# EAGLE library part LM2936QHBMA-5.0_NOPB (library LM2936QHBMA-5.0_NOPB)
Ultra-Low Quiescent Current LDO Voltage Regulator Source: Datasheet <http://www.ti.com/lit/gpn/lm2936q-q1>
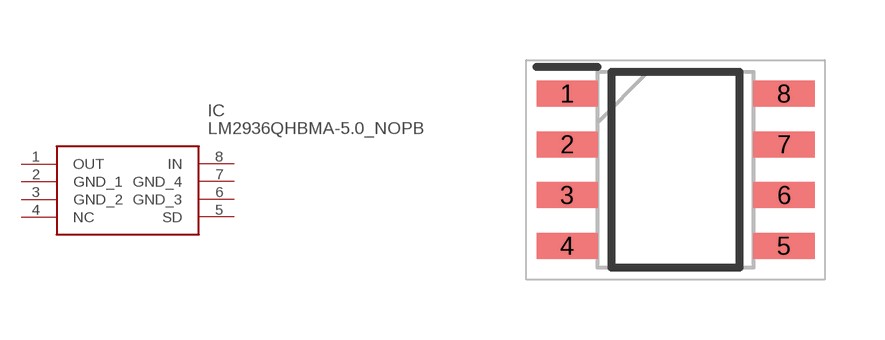
[diagram p0: symbol with the pads of SOIC127P600X175-8N; footprint SOIC127P600X175-8N]

Designator prefix IC

## LM2936QHBMA-5.0_NOPB (Description: Ultra-Low Quiescent Current LDO Voltage Regulator; Height: 1.75mm; Manufacturer_Name: Texas Instruments; Manufacturer_Part_Number: LM2936QHBMA-5.0/NOPB; Mouser_Part_Number: 595-LM2936QHBMA50NPB; Mouser_Price-Stock: https://www.mouser.co.uk/ProductDetail/Texas-Instruments/LM2936QHBMA-50-NOPB?qs=2k4gZbgf%2F9mAZ%2FQpas4ylg%3D%3D)  [SOIC127P600X175-8N]
1  OUT
2  GND_1
3  GND_2
4  NC  nc
5  SD
6  GND_3
7  GND_4
8  IN

## Footprint SOIC127P600X175-8N (pad centres in mm)
D(R-PDSO-G)
smd 1.528 x 0.65: 1 -2.711,1.905; 2 -2.711,0.635; 3 -2.711,-0.635; 4 -2.711,-1.905; 5 2.711,-1.905; 6 2.711,-0.635; 7 2.711,0.635; 8 2.711,1.905